# EAGLE library part GAMEPORT_15P (library bbc_micro)
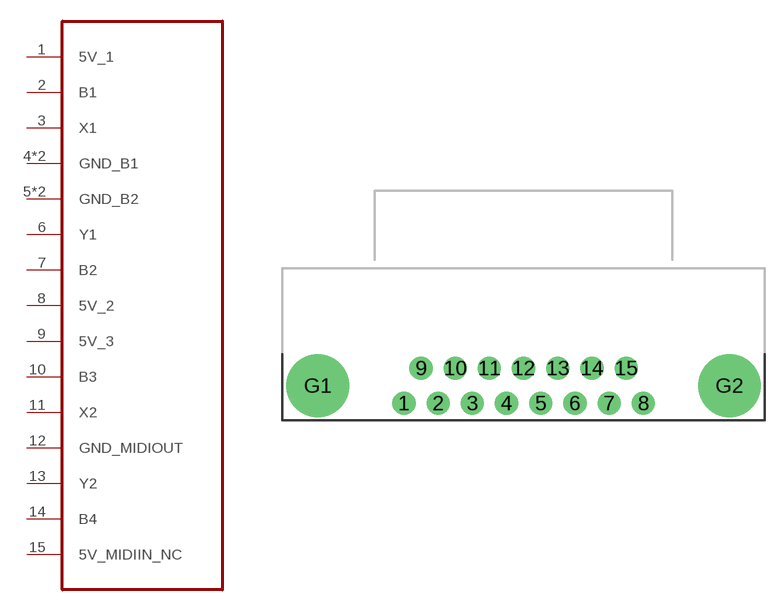
[diagram p0: symbol with the pads of DA15; footprint DA15]

Designator prefix -

## GAMEPORT_15P  [DA15]
1  5V_1
2  B1
3  X1
4  GND_B1
5  GND_B2
6  Y1
7  B2
8  5V_2
9  5V_3
10  B3
11  X2
12  GND_MIDIOUT
13  Y2
14  B4
15  5V_MIDIIN_NC
G1  GND_B1
G2  GND_B2

## Footprint DA15 (pad centres in mm)
9 Pin Serial Connector - Male PCB Mount Right Angle 0.318" style. Specifications: Pin count:11 Datasheet referenced for footprint <http://www.4uconnector.com/online/object/4udrawing/15944.pdf> Example device(s): DB9
drill 1.016 pad 1.88: 1 -9.69,-1.42; 2 -6.92,-1.42; 3 -4.15,-1.42; 4 -1.38,-1.42; 5 1.39,-1.42; 6 4.16,-1.42; 7 6.93,-1.42; 8 9.7,-1.42; 9 -8.3,1.42; 10 -5.53,1.42; 11 -2.77,1.42; 12 0,1.42; 13 2.77,1.42; 14 5.54,1.42; 15 8.31,1.42
drill 3.302 pad 5.08: G1 -16.66,0; G2 16.67,0